# Altium schematic symbol library WL-S7DS.SchLib: 12 symbols
Pins are listed as number, name and electrical type; pins without a type are passive.

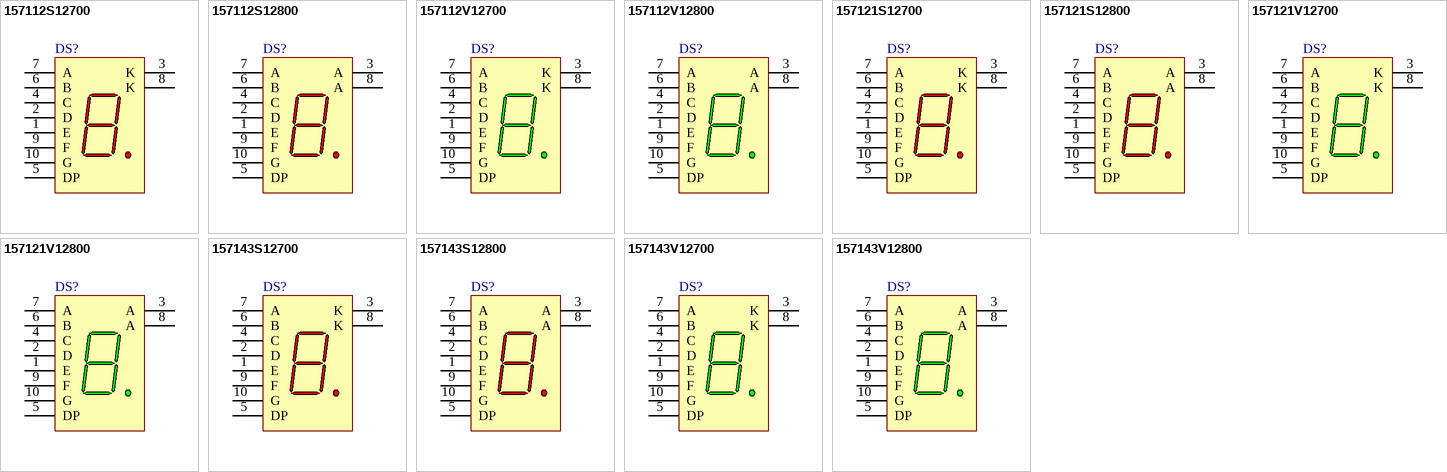
[diagram p0: symbols 157112S12700 to 157143V12800]

## 157112S12700
designator DS?
WL-S7DS 7 Segments Display SMT Single Digit, Common Cathode, 0.3'' / 7.62mm, 28mcd, 2V, Super Red; Manufacturer Part Number: 157112S12700; Manufacturer: Wurth Elektronik; Width: 7.3mm; Packaging: Tape and Reel; Operating Temperature max.: 85C; Mounting Technology: SMT; Luminous Intensity: 28mcd; Length: 12mm; Height: 3.75mm; Forward Voltage: 2V; Emitting Color: Super Red; ComponentLink2URL: https://www.we-online.com/catalog/datasheet/157112S12700.pdf; ComponentLink2Description: Datasheet; ComponentLink1URL: http://www.we-online.de; ComponentLink1Description: Manufacturer Link; Circuitry: Common Cathode; Operating Temperature min.: -35C; Display Height: 0.3'' / 7.62mm
footprint WL-S7DS_L12W7.3H3.75
pins: 1 E "Cathode", 2 D "Cathode", 3 K "Anode", 4 C "Cathode", 5 DP "Cathode", 6 B "Cathode", 7 A "Cathode", 8 K "Anode", 9 F "Cathode", 10 G "Cathode"

## 157112S12800
designator DS?
WL-S7DS 7 Segments Display SMT Single Digit, Common Anode, 0.3'' / 7.62mm, 28mcd, 2V, Super Red; Manufacturer Part Number: 157112S12800; Manufacturer: Wurth Elektronik; Width: 7.3mm; Packaging: Tape and Reel; Operating Temperature max.: 85C; Mounting Technology: SMT; Luminous Intensity: 28mcd; Length: 12mm; Height: 3.75mm; Forward Voltage: 2V; Emitting Color: Super Red; ComponentLink2URL: https://www.we-online.com/catalog/datasheet/157112S12800.pdf; ComponentLink2Description: Datasheet; ComponentLink1URL: http://www.we-online.de; ComponentLink1Description: Manufacturer Link; Circuitry: Common Anode; Operating Temperature min.: -35C; Display Height: 0.3'' / 7.62mm
footprint WL-S7DS_L12W7.3H3.75
pins: 1 E "Cathode", 2 D "Cathode", 3 A "Anode", 4 C "Cathode", 5 DP "Cathode", 6 B "Cathode", 7 A "Cathode", 8 A "Anode", 9 F "Cathode", 10 G "Cathode"

## 157112V12700
designator DS?
WL-S7DS 7 Segments Display SMT Single Digit, Common Cathode, 0.3'' / 7.62mm, 21mcd, 2V, Bright Green; Manufacturer Part Number: 157112V12700; Manufacturer: Wurth Elektronik; Width: 7.3mm; Packaging: Tape and Reel; Operating Temperature max.: 85C; Mounting Technology: SMT; Luminous Intensity: 21mcd; Length: 12mm; Height: 3.75mm; Forward Voltage: 2V; Emitting Color: Bright Green; ComponentLink2URL: https://www.we-online.com/catalog/datasheet/157112V12700.pdf; ComponentLink2Description: Datasheet; ComponentLink1URL: http://www.we-online.de; ComponentLink1Description: Manufacturer Link; Circuitry: Common Cathode; Operating Temperature min.: -35C; Display Height: 0.3'' / 7.62mm
footprint WL-S7DS_L12W7.3H3.75
pins: 1 E "Cathode", 2 D "Cathode", 3 K "Anode", 4 C "Cathode", 5 DP "Cathode", 6 B "Cathode", 7 A "Cathode", 8 K "Anode", 9 F "Cathode", 10 G "Cathode"

## 157112V12800
designator DS?
WL-S7DS 7 Segments Display SMT Single Digit, Common Anode, 0.3'' / 7.62mm, 21mcd, 2V, Bright Green; Manufacturer Part Number: 157112V12800; Manufacturer: Wurth Elektronik; Width: 7.3mm; Packaging: Tape and Reel; Operating Temperature max.: 85C; Mounting Technology: SMT; Luminous Intensity: 21mcd; Length: 12mm; Height: 3.75mm; Forward Voltage: 2V; Emitting Color: Bright Green; ComponentLink2URL: https://www.we-online.com/catalog/datasheet/157112V12800.pdf; ComponentLink2Description: Datasheet; ComponentLink1URL: http://www.we-online.de; ComponentLink1Description: Manufacturer Link; Circuitry: Common Anode; Operating Temperature min.: -35C; Display Height: 0.3'' / 7.62mm
footprint WL-S7DS_L12W7.3H3.75
pins: 1 E "Cathode", 2 D "Cathode", 3 A "Anode", 4 C "Cathode", 5 DP "Cathode", 6 B "Cathode", 7 A "Cathode", 8 A "Anode", 9 F "Cathode", 10 G "Cathode"

## 157121S12700
designator DS?
WL-S7DS 7 Segments Display SMT Single Digit, Common Cathode, 0.39'' / 10mm, 38mcd, 2V, Super Red; Manufacturer Part Number: 157121S12700; Manufacturer: Wurth Elektronik; Width: 9.8mm; Packaging: Tape and Reel; Operating Temperature max.: 85C; Mounting Technology: SMT; Luminous Intensity: 38mcd; Length: 15mm; Height: 3.75mm; Forward Voltage: 2V; Emitting Color: Super Red; ComponentLink2URL: https://www.we-online.com/catalog/datasheet/157121S12700.pdf; ComponentLink2Description: Datasheet; ComponentLink1URL: http://www.we-online.de; ComponentLink1Description: Manufacturer Link; Circuitry: Common Cathode; Operating Temperature min.: -35C; Display Height: 0.39'' / 10mm
footprint WL-S7DS_L15W9.8H3.75
pins: 1 E "Cathode", 2 D "Cathode", 3 K "Anode", 4 C "Cathode", 5 DP "Cathode", 6 B "Cathode", 7 A "Cathode", 8 K "Anode", 9 F "Cathode", 10 G "Cathode"

## 157121S12800
designator DS?
WL-S7DS 7 Segments Display SMT Single Digit, Common Anode, 0.39'' / 10mm, 38mcd, 2V, Super Red; Manufacturer Part Number: 157121S12800; Manufacturer: Wurth Elektronik; Width: 9.8mm; Packaging: Tape and Reel; Operating Temperature max.: 85C; Mounting Technology: SMT; Luminous Intensity: 38mcd; Length: 15mm; Height: 3.75mm; Forward Voltage: 2V; Emitting Color: Super Red; ComponentLink2URL: https://www.we-online.com/catalog/datasheet/157121S12800.pdf; ComponentLink2Description: Datasheet; ComponentLink1URL: http://www.we-online.de; ComponentLink1Description: Manufacturer Link; Circuitry: Common Anode; Operating Temperature min.: -35C; Display Height: 0.39'' / 10mm
footprint WL-S7DS_L15W9.8H3.75
pins: 1 E "Cathode", 2 D "Cathode", 3 A "Anode", 4 C "Cathode", 5 DP "Cathode", 6 B "Cathode", 7 A "Cathode", 8 A "Anode", 9 F "Cathode", 10 G "Cathode"

## 157121V12700
designator DS?
WL-S7DS 7 Segments Display SMT Single Digit, Common Cathode, 0.39'' / 10mm, 35mcd, 2V, Bright Green; Manufacturer Part Number: 157121V12700; Manufacturer: Wurth Elektronik; Width: 9.8mm; Packaging: Tape and Reel; Operating Temperature max.: 85C; Mounting Technology: SMT; Luminous Intensity: 35mcd; Length: 15mm; Height: 3.75mm; Forward Voltage: 2V; Emitting Color: Bright Green; ComponentLink2URL: https://www.we-online.com/catalog/datasheet/157121V12700.pdf; ComponentLink2Description: Datasheet; ComponentLink1URL: http://www.we-online.de; ComponentLink1Description: Manufacturer Link; Circuitry: Common Cathode; Operating Temperature min.: -35C; Display Height: 0.39'' / 10mm
footprint WL-S7DS_L15W9.8H3.75
pins: 1 E "Cathode", 2 D "Cathode", 3 K "Anode", 4 C "Cathode", 5 DP "Cathode", 6 B "Cathode", 7 A "Cathode", 8 K "Anode", 9 F "Cathode", 10 G "Cathode"

## 157121V12800
designator DS?
WL-S7DS 7 Segments Display SMT Single Digit, Common Anode, 0.39'' / 10mm, 35mcd, 2V, Bright Green; Manufacturer Part Number: 157121V12800; Manufacturer: Wurth Elektronik; Width: 9.8mm; Packaging: Tape and Reel; Operating Temperature max.: 85C; Mounting Technology: SMT; Luminous Intensity: 35mcd; Length: 15mm; Height: 3.75mm; Forward Voltage: 2V; Emitting Color: Bright Green; ComponentLink2URL: https://www.we-online.com/catalog/datasheet/157121V12800.pdf; ComponentLink2Description: Datasheet; ComponentLink1URL: http://www.we-online.de; ComponentLink1Description: Manufacturer Link; Circuitry: Common Anode; Operating Temperature min.: -35C; Display Height: 0.39'' / 10mm
footprint WL-S7DS_L15W9.8H3.75
pins: 1 E "Cathode", 2 D "Cathode", 3 A "Anode", 4 C "Cathode", 5 DP "Cathode", 6 B "Cathode", 7 A "Cathode", 8 A "Anode", 9 F "Cathode", 10 G "Cathode"

## 157143S12700
designator DS?
WL-S7DS 7 Segments Display SMT Single Digit, Common Cathode, 0.56'' / 14.22mm, 28mcd, 2V, Super Red; Manufacturer Part Number: 157143S12700; Manufacturer: Wurth Elektronik; Width: 12.4mm; Packaging: Tape and Reel; Operating Temperature max.: 85C; Mounting Technology: SMT; Luminous Intensity: 28mcd; Length: 19mm; Height: 3.75mm; Forward Voltage: 2V; Emitting Color: Super Red; ComponentLink2URL: https://www.we-online.com/catalog/datasheet/157143S12700.pdf; ComponentLink2Description: Datasheet; ComponentLink1URL: http://www.we-online.de; ComponentLink1Description: Manufacturer Link; Circuitry: Common Cathode; Operating Temperature min.: -35C; Display Height: 0.56'' / 14.22mm
footprint WL-S7DS_L19W12.4H3.75
pins: 1 E "Cathode", 2 D "Cathode", 3 K "Anode", 4 C "Cathode", 5 DP "Cathode", 6 B "Cathode", 7 A "Cathode", 8 K "Anode", 9 F "Cathode", 10 G "Cathode"

## 157143S12800
designator DS?
WL-S7DS 7 Segments Display SMT Single Digit, Common Anode, 0.56'' / 14.22mm, 28mcd, 2V, Super Red; Manufacturer Part Number: 157143S12800; Manufacturer: Wurth Elektronik; Width: 12.4mm; Packaging: Tape and Reel; Operating Temperature max.: 85C; Mounting Technology: SMT; Luminous Intensity: 28mcd; Length: 19mm; Height: 3.75mm; Forward Voltage: 2V; Emitting Color: Super Red; ComponentLink2URL: https://www.we-online.com/catalog/datasheet/157143S12800.pdf; ComponentLink2Description: Datasheet; ComponentLink1URL: http://www.we-online.de; ComponentLink1Description: Manufacturer Link; Circuitry: Common Anode; Operating Temperature min.: -35C; Display Height: 0.56'' / 14.22mm
footprint WL-S7DS_L19W12.4H3.75
pins: 1 E "Cathode", 2 D "Cathode", 3 A "Anode", 4 C "Cathode", 5 DP "Cathode", 6 B "Cathode", 7 A "Cathode", 8 A "Anode", 9 F "Cathode", 10 G "Cathode"

## 157143V12700
designator DS?
WL-S7DS 7 Segments Display SMT Single Digit, Common Cathode, 0.56'' / 14.22mm, 35mcd, 2V, Bright Green; Manufacturer Part Number: 157143V12700; Manufacturer: Wurth Elektronik; Width: 12.4mm; Packaging: Tape and Reel; Operating Temperature max.: 85C; Mounting Technology: SMT; Luminous Intensity: 35mcd; Length: 19mm; Height: 3.75mm; Forward Voltage: 2V; Emitting Color: Bright Green; ComponentLink2URL: https://www.we-online.com/catalog/datasheet/157143V12700.pdf; ComponentLink2Description: Datasheet; ComponentLink1URL: http://www.we-online.de; ComponentLink1Description: Manufacturer Link; Circuitry: Common Cathode; Operating Temperature min.: -35C; Display Height: 0.56'' / 14.22mm
footprint WL-S7DS_L19W12.4H3.75
pins: 1 E "Cathode", 2 D "Cathode", 3 K "Anode", 4 C "Cathode", 5 DP "Cathode", 6 B "Cathode", 7 A "Cathode", 8 K "Anode", 9 F "Cathode", 10 G "Cathode"

## 157143V12800
designator DS?
WL-S7DS 7 Segments Display SMT Single Digit, Common Anode, 0.56'' / 14.22mm, 35mcd, 2V, Bright Green; Manufacturer Part Number: 157143V12800; Manufacturer: Wurth Elektronik; Width: 12.4mm; Packaging: Tape and Reel; Operating Temperature max.: 85C; Mounting Technology: SMT; Luminous Intensity: 35mcd; Length: 19mm; Height: 3.75mm; Forward Voltage: 2V; Emitting Color: Bright Green; ComponentLink2URL: https://www.we-online.com/catalog/datasheet/157143V12800.pdf; ComponentLink2Description: Datasheet; ComponentLink1URL: http://www.we-online.de; ComponentLink1Description: Manufacturer Link; Circuitry: Common Anode; Operating Temperature min.: -35C; Display Height: 0.56'' / 14.22mm
footprint WL-S7DS_L19W12.4H3.75
pins: 1 E "Cathode", 2 D "Cathode", 3 A "Anode", 4 C "Cathode", 5 DP "Cathode", 6 B "Cathode", 7 A "Cathode", 8 A "Anode", 9 F "Cathode", 10 G "Cathode"